# EAGLE library part PLUX22 (library con-nem)
PluX22, female SMD type 21 pin, 1,27mm grid. T: Top mount (view from top of decoder) M: mirrored, Bottom mount, insert through PCB P: Plug (to be mounted on decoder)
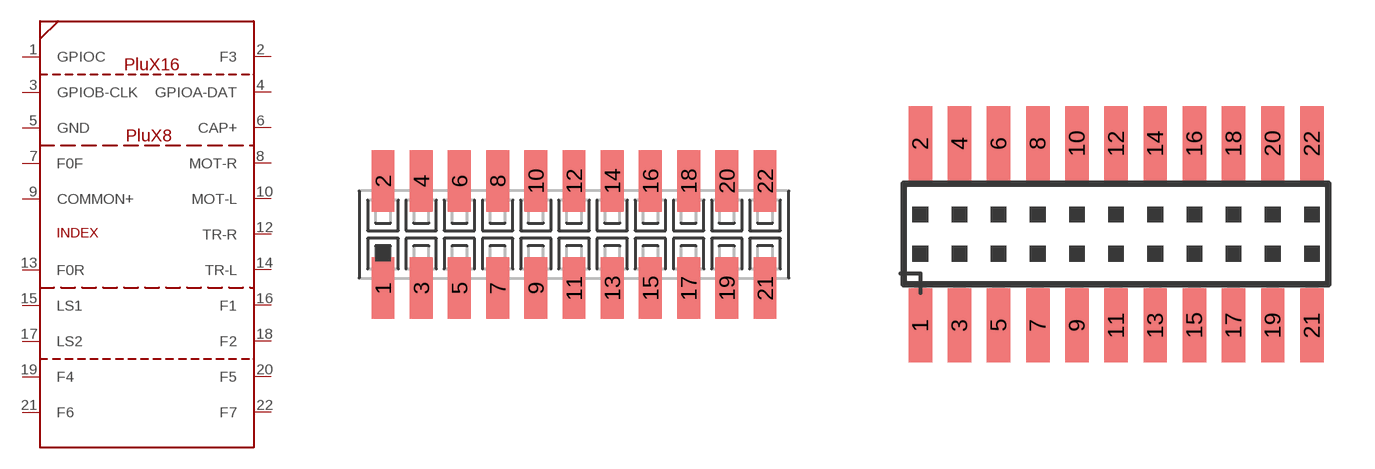
[diagram p4: symbol with the pads of 1296-22; footprints 1296-22, 1365-22]

Designator prefix X

## PLUX22-T  [1296-22]
1  GPIOC
2  F3
3  GPIOB-CLK
4  GPIOA-DAT
5  GND
6  CAP+
7  F0F
8  MOT-R
9  COMMON+
10  MOT-L
12  TR-R
13  F0R
14  TR-L
15  LS1
16  F1
17  LS2
18  F2
19  F4
20  F5
21  F6
22  F7

## PLUX22-M  [1296-22]
1  F3
2  GPIOC
3  GPIOA-DAT
4  GPIOB-CLK
5  CAP+
6  GND
7  MOT-R
8  F0F
9  MOT-L
10  COMMON+
11  TR-R
13  TR-L
14  F0R
15  F1
16  LS1
17  F2
18  LS2
19  F5
20  F4
21  F7
22  F6

## PLUX22-P  [1365-22]
Pads as for 1296-22

## Footprint 1296-22 (pad centres in mm)
1.27mm SINGLE ROW FEMALE SOCKET Source: http://www.leotronics.co.uk/Conexcon/Data%20Sheets/sec.%20A/1296ing.pdf
smd 0.76 x 2.05: 1 -6.35,-1.78; 2 -6.35,1.78; 3 -5.08,-1.78; 4 -5.08,1.78; 5 -3.81,-1.78; 6 -3.81,1.78; 7 -2.54,-1.78; 8 -2.54,1.78; 9 -1.27,-1.78; 10 -1.27,1.78; 11 0,-1.78; 12 0,1.78; 13 1.27,-1.78; 14 1.27,1.78; 15 2.54,-1.78; 16 2.54,1.78; 17 3.81,-1.78; 18 3.81,1.78; 19 5.08,-1.78; 20 5.08,1.78; 21 6.35,-1.78; 22 6.35,1.78

## Footprint 1365-22 (pad centres in mm)
DUAL ROW STRAIGHT HEADER 1364 SERIES. 1.27mm x 1.27mm. Without Fixing Post. SMT Source: http://www.leotronics.co.uk/Conexcon/
smd 0.76 x 2.4: 1 -6.35,-2.95; 2 -6.35,2.95; 3 -5.08,-2.95; 4 -5.08,2.95; 5 -3.81,-2.95; 6 -3.81,2.95; 7 -2.54,-2.95; 8 -2.54,2.95; 9 -1.27,-2.95; 10 -1.27,2.95; 11 0,-2.95; 12 0,2.95; 13 1.27,-2.95; 14 1.27,2.95; 15 2.54,-2.95; 16 2.54,2.95; 17 3.81,-2.95; 18 3.81,2.95; 19 5.08,-2.95; 20 5.08,2.95; 21 6.35,-2.95; 22 6.35,2.95